# Altium schematic symbol library Protection Filters Ferrite_beads.SchLib: 3 symbols
Pins are listed as number, name and electrical type; pins without a type are passive.

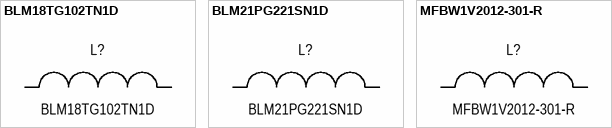
[diagram p0: symbols BLM18TG102TN1D to MFBW1V2012-301-R]

## BLM18TG102TN1D
designator L?
Ferrite bead 100mA 0603(1608); Manufacturer: Samsung Electro-Mechanics; Group: Power; Current Rating: 1.7A; DC Resistance: 470mOhm; Impedance/Frequency: 1kOhm/100MHz; Component: Protection Filter Ferrite_beads; Part name: BLM18TG102TN1D; Package: 0603 (1608); Dimension: 1.60mm x 0.80mm; Operating temperature: -55°C +125°C; Height: 0.70mm; Mounting type: Surface mount
footprint FRBC1608N
pins: 1, 2

## BLM21PG221SN1D
designator L?
Ferrite bead 2A 0805(2012); Manufacturer: Murata Electronics; Group: Power; Current Rating: 2.0A; DC Resistance: 470mOhm; Impedance/Frequency: 220Ohms/00MHz; Component: Protection Filter Ferrite_beads; Part name: BLM21PG221SN1D; Package: 0805 (2012); Dimension: 2.00mm x 1.25mm; Operating temperature: -55°C +125°C; Height: 1.05mm; Mounting type: Surface mount
footprint FRBC2012N
pins: 1, 2

## MFBW1V2012-301-R
designator L?
Ferrite bead 2A 0805(2012); Manufacturer: Eaton; Group: Power; Current Rating: 2.0A; DC Resistance: 200mOhm; Impedance/Frequency: 300Ohms/100MHz; Component: Protection Filter Ferrite_beads; Part name: MFBW1V2012-301-R; Package: 0805 (2012); Dimension: 2.00mm x 1.25mm; Operating temperature: -40°C +85°C; Height: 1.10mm; Mounting type: Surface mount
footprint FRBC2012N
pins: 1, 2